# EAGLE library part MMSAM7SXX-X (library X893)
http://www.terraelectronica.ru/pdf/PROPOX/MMSAM7S64-0.pdf
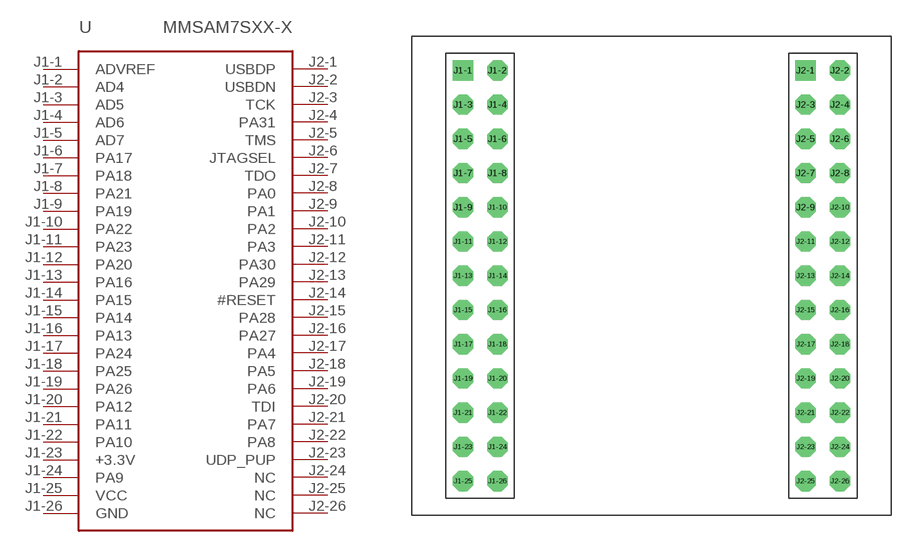
[diagram p123: symbol with the pads of MMSAM7SXX-X; footprint MMSAM7SXX-X]

Designator prefix U

## MMSAM7SXX-X  [MMSAM7SXX-X]
J1-1  ADVREF
J1-2  AD4
J1-3  AD5
J1-4  AD6
J1-5  AD7
J1-6  PA17
J1-7  PA18
J1-8  PA21
J1-9  PA19
J1-10  PA22
J1-11  PA23
J1-12  PA20
J1-13  PA16
J1-14  PA15
J1-15  PA14
J1-16  PA13
J1-17  PA24
J1-18  PA25
J1-19  PA26
J1-20  PA12
J1-21  PA11
J1-22  PA10
J1-23  +3.3V
J1-24  PA9
J1-25  VCC
J1-26  GND
J2-1  USBDP
J2-2  USBDN
J2-3  TCK
J2-4  PA31
J2-5  TMS
J2-6  JTAGSEL
J2-7  TDO
J2-8  PA0
J2-9  PA1
J2-10  PA2
J2-11  PA3
J2-12  PA30
J2-13  PA29
J2-14  #RESET
J2-15  PA28
J2-16  PA27
J2-17  PA4
J2-18  PA5
J2-19  PA6
J2-20  TDI
J2-21  PA7
J2-22  PA8
J2-23  UDP_PUP
J2-24  NC
J2-25  NC
J2-26  NC

## Footprint MMSAM7SXX-X (pad centres in mm)
drill 1 square: J1-1 -13.97,15.24; J2-1 11.43,15.24
drill 1 octagon: J1-2 -11.43,15.24; J1-3 -13.97,12.7; J1-4 -11.43,12.7; J1-5 -13.97,10.16; J1-6 -11.43,10.16; J1-7 -13.97,7.62; J1-8 -11.43,7.62; J1-9 -13.97,5.08; J1-10 -11.43,5.08; J1-11 -13.97,2.54; J1-12 -11.43,2.54; J1-13 -13.97,0; J1-14 -11.43,0; J1-15 -13.97,-2.54; J1-16 -11.43,-2.54; J1-17 -13.97,-5.08; J1-18 -11.43,-5.08; J1-19 -13.97,-7.62; J1-20 -11.43,-7.62; J1-21 -13.97,-10.16; J1-22 -11.43,-10.16; J1-23 -13.97,-12.7; J1-24 -11.43,-12.7; J1-25 -13.97,-15.24; J1-26 -11.43,-15.24; J2-2 13.97,15.24; J2-3 11.43,12.7; J2-4 13.97,12.7; J2-5 11.43,10.16; J2-6 13.97,10.16; J2-7 11.43,7.62; J2-8 13.97,7.62; J2-9 11.43,5.08; J2-10 13.97,5.08; J2-11 11.43,2.54; J2-12 13.97,2.54; J2-13 11.43,0; J2-14 13.97,0; J2-15 11.43,-2.54; J2-16 13.97,-2.54; J2-17 11.43,-5.08; J2-18 13.97,-5.08; J2-19 11.43,-7.62; J2-20 13.97,-7.62; J2-21 11.43,-10.16; J2-22 13.97,-10.16; J2-23 11.43,-12.7; J2-24 13.97,-12.7; J2-25 11.43,-15.24; J2-26 13.97,-15.24